# EAGLE library part TS5A23166 (library epic)
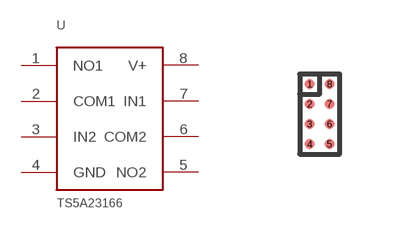
[diagram p30: symbol with the pads of WCSP-8; footprint WCSP-8]

Designator prefix U

## TS5A23166  [WCSP-8]
1  NO1
2  COM1
3  IN2
4  GND
5  NO2
6  COM2
7  IN1
8  V+

## Footprint WCSP-8 (pad centres in mm)
smd 0.25 x 0.25: 1 -0.25,0.75; 2 -0.25,0.25; 3 -0.25,-0.25; 4 -0.25,-0.75; 5 0.25,-0.75; 6 0.25,-0.25; 7 0.25,0.25; 8 0.25,0.75